# EAGLE library part BQ24080-Q1, (library My_TI)
1-A, Single Chip, Li-Ion and Li-Pol Automotive Charger. http://www.ti.com/lit/ds/symlink/bq24081-q1.pdf
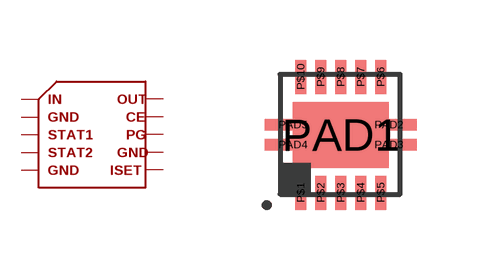
[diagram p18: symbol with the pads of VSON10; footprint VSON10]

Designator prefix IC

## BQ24080-Q1,  [VSON10]
P$1  P$1
P$2  P$2
P$3  P$3
P$4  P$4
P$5  P$5
P$6  P$6
P$7  P$7
P$8  P$8
P$9  P$9
P$10  P$10
PAD1  P$5
PAD2  P$5
PAD3  P$5
PAD4  P$5
PAD5  P$5

## Footprint VSON10 (pad centres in mm)
smd 0.28 x 0.85: P$1 -1,-1.5; P$2 -0.5,-1.5; P$3 0,-1.5; P$4 0.5,-1.5; P$5 1,-1.5; P$6 1,1.4; P$7 0.5,1.4; P$8 0,1.4; P$9 -0.5,1.4; P$10 -1,1.4
smd 2.4 x 1.65: PAD1 0,-0.05
smd 1.4 x 0.28: PAD2 1.2,0.2; PAD3 1.2,-0.3; PAD4 -1.2,-0.3; PAD5 -1.2,0.2